# Altium footprint library AngleVu.PcbLib: 74 footprints (part 4 of 5)
Each footprint in its own frame and in the unit in brackets; x right, y up, seen from the top. Pads: shape width x height; smd on the part's side, far side on the other; paste and mask are expansions set on the pad; w line width, h text height; cw(c..) or ccw(c..) is an arc to the next point about the centre after c.
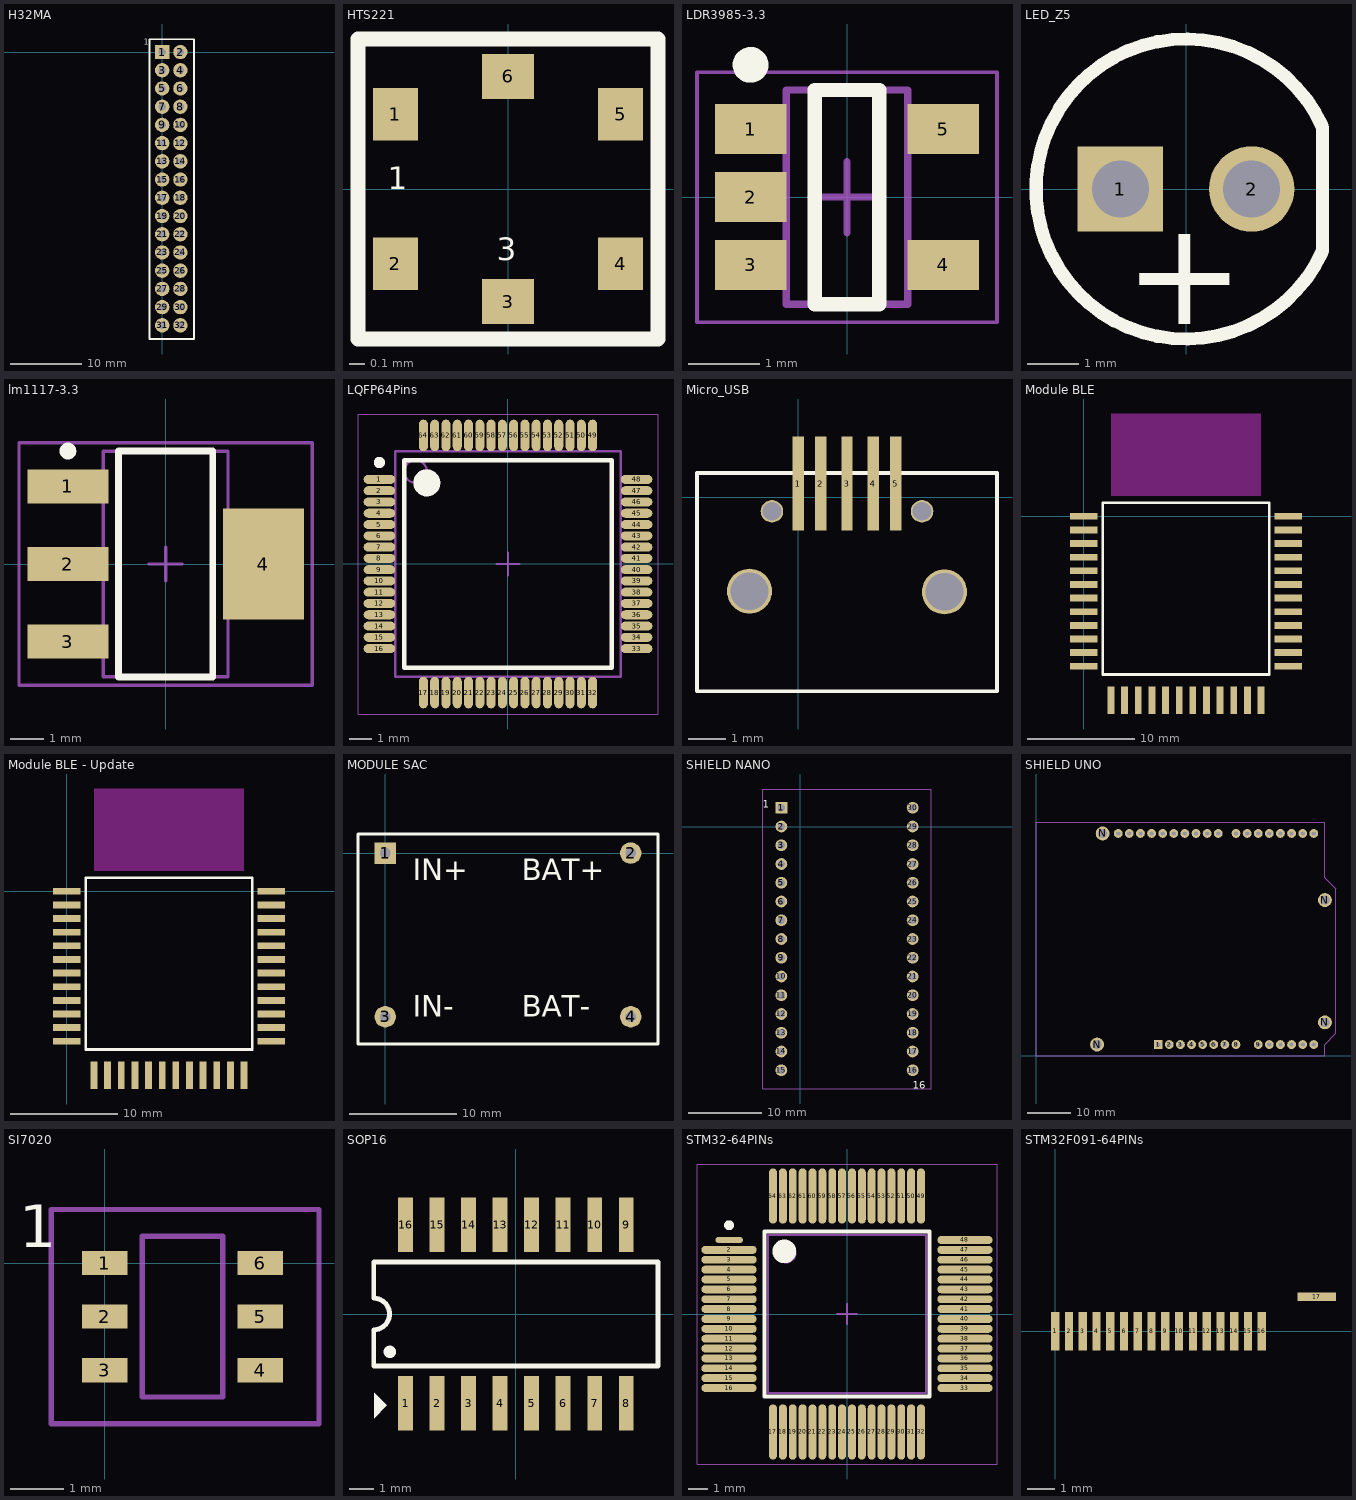
[diagram p3: the footprints below, top view; thin cyan lines are the x and y axes]

## H32MA [mm] "HEADER, DOUBLE, DISTANCE = 100mil"
pads (32):
  rect 2x2 hole 1: 1(0,0)
  round 2 hole 1: 2(2.54,0) 3(0,-2.54) 4(2.54,-2.54) 5(0,-5.08) 6(2.54,-5.08) 7(0,-7.62) 8(2.54,-7.62) 9(0,-10.16) 10(2.54,-10.16) 11(0,-12.7) 12(2.54,-12.7) 13(0,-15.24) 14(2.54,-15.24) 15(0,-17.78) 16(2.54,-17.78) 17(0,-20.32) 18(2.54,-20.32) 19(0,-22.86) 20(2.54,-22.86) 21(0,-25.4) 22(2.54,-25.4) 23(0,-27.94) 24(2.54,-27.94) 25(0,-30.48) 26(2.54,-30.48) 27(0,-33.02) 28(2.54,-33.02) 29(0,-35.56) 30(2.54,-35.56) 31(0,-38.1) 32(2.54,-38.1)
Top Overlay:
  lines w0.254: -1.778,-40.005 4.445,-40.005 4.445,1.778 -1.778,1.778 -1.778,-40.005
  text "1" at -2.54,1.016 h0.8

## HTS221 [mm]
pads (6):
  rect 0.3x0.35 smd mask+0.05: 1(-0.75,0.5) 2(-0.75,-0.5) 4(0.75,-0.5) 5(0.75,0.5)
  rect 0.35x0.3 smd mask+0.05: 3(0,-0.75) 6(0,0.75)
Top Overlay:
  lines w0.1: -1,-1 1,-1 1,1 -1,1 -1,-1
  text "1" at -0.8,0 h0.15
  text "3" at -0.075,-0.475 h0.15

## LDR3985-3.3 [mm] "SOT23, 5-Leads, Body 2.90x2.80mm, Pitch 0.95mm, IPC Medium Density"
height 0.9
pads (5):
  rect 1x0.7 smd: 1(-1.35,0.95) 2(-1.35,0) 3(-1.35,-0.95) 4(1.35,-0.95) 5(1.35,0.95)
Top Overlay:
  circle w0.25: c-1.35,1.85 r0.125
  lines w0.2: -0.45,-1.5 -0.45,1.5 0.45,1.5 0.45,-1.5 -0.45,-1.5
Mechanical 13:
  lines w0.1: -0.85,-1.5 0.85,-1.5 0.85,1.5 -0.85,1.5 -0.85,-1.5
Mechanical 15:
  lines w0.05: -2.1,-1.75 2.1,-1.75 2.1,1.75 -2.1,1.75 -2.1,-1.75
  lines w0.1: -0.5,0 0.5,0 ; 0,-0.5 0,0.5
3D body: height 0.9, standoff 0.05, extent -0.85,-1.5 0.85,1.5

## LED_Z5 [mil] "LED phi 5mm"
height 649.61
pads (2):
  rect 65x65 hole 43.31: 1(-50,0)
  round 65 hole 43.31: 2(50,0)
Top Overlay:
  lines w10: 103.49,-48.23 cw(c0,0) 103.49,48.23 ; 104,-47 104,46.9
  text "+" at -47,-103 h80

## lm1117-3.3 [mm] "SOT223, 4-Leads, Body 6.5x3.5mm, Pitch 2.3mm, Lead Span 7mm, IPC Medium Density"
height 1.8
pads (4):
  rect 2.4x1 smd: 1(-2.9,2.3) 2(-2.9,0) 3(-2.9,-2.3)
  rect 2.4x3.3 smd: 4(2.9,0)
Top Overlay:
  circle w0.25: c-2.9,3.35 r0.125
  lines w0.2: -1.4,-3.35 1.4,-3.35 1.4,3.35 -1.4,3.35 -1.4,-3.35
Mechanical 13:
  lines w0.1: -1.85,-3.35 1.85,-3.35 1.85,3.35 -1.85,3.35 -1.85,-3.35
Mechanical 15:
  lines w0.1: -0.5,0 0.5,0 ; 0,-0.5 0,0.5 ; -4.35,-3.6 4.35,-3.6 4.35,3.6 -4.35,3.6 -4.35,-3.6
3D body: height 1.8, standoff 0, extent -1.85,-3.35 1.85,3.35

## LQFP64Pins [mm]
height 1.6
pads (64):
  oval 1.4x0.4 smd: 1(-5.7,3.75) 2(-5.7,3.25) 3(-5.7,2.75) 4(-5.7,2.25) 5(-5.7,1.75) 6(-5.7,1.25) 7(-5.7,0.75) 8(-5.7,0.25) 9(-5.7,-0.25) 10(-5.7,-0.75) 11(-5.7,-1.25) 12(-5.7,-1.75) 13(-5.7,-2.25) 14(-5.7,-2.75) 15(-5.7,-3.25) 16(-5.7,-3.75) 33(5.7,-3.75) 34(5.7,-3.25) 35(5.7,-2.75) 36(5.7,-2.25) 37(5.7,-1.75) 38(5.7,-1.25) 39(5.7,-0.75) 40(5.7,-0.25) 41(5.7,0.25) 42(5.7,0.75) 43(5.7,1.25) 44(5.7,1.75) 45(5.7,2.25) 46(5.7,2.75) 47(5.7,3.25) 48(5.7,3.75)
  oval 0.4x1.4 smd: 17(-3.75,-5.7) 18(-3.25,-5.7) 19(-2.75,-5.7) 20(-2.25,-5.7) 21(-1.75,-5.7) 22(-1.25,-5.7) 23(-0.75,-5.7) 24(-0.25,-5.7) 25(0.25,-5.7) 26(0.75,-5.7) 27(1.25,-5.7) 28(1.75,-5.7) 29(2.25,-5.7) 30(2.75,-5.7) 31(3.25,-5.7) 32(3.75,-5.7) 49(3.75,5.7) 50(3.25,5.7) 51(2.75,5.7) 52(2.25,5.7) 53(1.75,5.7) 54(1.25,5.7) 55(0.75,5.7) 56(0.25,5.7) 57(-0.25,5.7) 58(-0.75,5.7) 59(-1.25,5.7) 60(-1.75,5.7) 61(-2.25,5.7) 62(-2.75,5.7) 63(-3.25,5.7) 64(-3.75,5.7)
Top Overlay:
  circle w0.6: c-3.6,3.6 r0.3
  circle w0.25: c-5.7,4.5 r0.125
  lines w0.2: -4.6,-4.6 4.6,-4.6 4.6,4.6 -4.6,4.6 -4.6,-4.6
Mechanical 13:
  circle w0.1: c-4.1,4.1 r0.5
  lines w0.1: -5,-5 5,-5 5,5 -5,5 -5,-5
Mechanical 15:
  lines w0.05: -6.65,-6.65 6.65,-6.65 6.65,6.65 -6.65,6.65 -6.65,-6.65
  lines w0.1: -0.5,0 0.5,0 ; 0,-0.5 0,0.5
3D body: height 1.6, standoff 0.15, extent -5,-5 5,5

## Micro_USB [mm]
pads (9):
  rect 0.3x2.5 smd mask+0.05: 1(0,0.37) 2(0.6,0.37) 3(1.3,0.37) 4(2,0.37) 5(2.6,0.37)
  round 1.2 hole 1 mask+0.05: ""(-1.3,-2.5) ""(3.9,-2.52)
  round 0.6 hole 0.5 mask+0.05: ""(-0.7,-0.37) ""(3.3,-0.37)
Top Overlay:
  lines w0.1: -2.7,-5.17 5.3,-5.17 5.3,0.65 -2.7,0.65 -2.7,-5.17
3D body "User Library-10104111.STEP": height 2.77, standoff -0.3, extent -3.1,-5.116 5.7,0.509

## Module BLE [mm]
pads (36):
  rect 2.54x0.635 smd: 1(0,0) 2(0,-1.27) 3(0,-2.54) 4(0,-3.81) 5(0,-5.08) 6(0,-6.35) 7(0,-7.62) 8(0,-8.89) 9(0,-10.16) 10(0,-11.43) 11(0,-12.7) 12(0,-13.97) 25(19.05,-13.97) 26(19.05,-12.7) 27(19.05,-11.43) 28(19.05,-10.16) 29(19.05,-8.89) 30(19.05,-7.62) 31(19.05,-6.35) 32(19.05,-5.08) 33(19.05,-3.81) 34(19.05,-2.54) 35(19.05,-1.27) 36(19.05,0)
  rect 0.635x2.54 smd: 13(2.54,-17.145) 14(3.81,-17.145) 15(5.08,-17.145) 16(6.35,-17.145) 17(7.62,-17.145) 18(8.89,-17.145) 19(10.16,-17.145) 20(11.43,-17.145) 21(12.7,-17.145) 22(13.97,-17.145) 23(15.24,-17.145) 24(16.51,-17.145)
Top Overlay:
  lines w0.254: 1.778,-14.732 1.778,1.27 17.272,1.27 17.272,-14.732 1.778,-14.732
Keep-Out Layer:
  region: 2.54,9.525 2.54,1.905 16.51,1.905 16.51,9.525

## Module BLE - Update [mm]
pads (36):
  rect 2.54x0.635 smd: 1(0,0) 2(0,-1.27) 3(0,-2.54) 4(0,-3.81) 5(0,-5.08) 6(0,-6.35) 7(0,-7.62) 8(0,-8.89) 9(0,-10.16) 10(0,-11.43) 11(0,-12.7) 12(0,-13.97) 25(19.05,-13.97) 26(19.05,-12.7) 27(19.05,-11.43) 28(19.05,-10.16) 29(19.05,-8.89) 30(19.05,-7.62) 31(19.05,-6.35) 32(19.05,-5.08) 33(19.05,-3.81) 34(19.05,-2.54) 35(19.05,-1.27) 36(19.05,0)
  rect 0.635x2.54 smd: 13(2.54,-17.145) 14(3.81,-17.145) 15(5.08,-17.145) 16(6.35,-17.145) 17(7.62,-17.145) 18(8.89,-17.145) 19(10.16,-17.145) 20(11.43,-17.145) 21(12.7,-17.145) 22(13.97,-17.145) 23(15.24,-17.145) 24(16.51,-17.145)
Top Overlay:
  lines w0.254: 1.778,-14.732 17.272,-14.732 17.272,1.27 1.778,1.27 1.778,-14.732
Keep-Out Layer:
  region: 2.54,9.525 2.54,1.905 16.51,1.905 16.51,9.525

## MODULE SAC [mm] "HEADER, DOUBLE, DISTANCE = 100mil"
pads (4):
  rect 2x2 hole 1: 1(0,0)
  round 2 hole 1: 2(22.86,0) 3(0,-15.24) 4(22.86,-15.24)
Top Overlay:
  lines w0.254: -2.54,-17.78 25.4,-17.78 25.4,1.778 -2.54,1.778 -2.54,-17.78
  text "IN+" at 2.54,-2.54 h2
  text "IN-" at 2.54,-15.24 h2
  text "BAT+" at 12.7,-2.54 h2
  text "BAT-" at 12.7,-15.24 h2

## SHIELD NANO [mm]
pads (30):
  rect 1.6x1.6 hole 1: 1(-2.54,2.54)
  round 1.6 hole 1: 2(-2.54,0) 3(-2.54,-2.54) 4(-2.54,-5.08) 5(-2.54,-7.62) 6(-2.54,-10.16) 7(-2.54,-12.7) 8(-2.54,-15.24) 9(-2.54,-17.78) 10(-2.54,-20.32) 11(-2.54,-22.86) 12(-2.54,-25.4) 13(-2.54,-27.94) 14(-2.54,-30.48) 15(-2.54,-33.02) 16(15.24,-33.02) 17(15.24,-30.48) 18(15.24,-27.94) 19(15.24,-25.4) 20(15.24,-22.86) 21(15.24,-20.32) 22(15.24,-17.78) 23(15.24,-15.24) 24(15.24,-12.7) 25(15.24,-10.16) 26(15.24,-7.62) 27(15.24,-5.08) 28(15.24,-2.54) 29(15.24,0) 30(15.24,2.54)
Top Overlay:
  text "16" at 15.24,-35.56 h1
  text "1" at -5.08,2.54 h1
Mechanical 1:
  lines w0.1: -5.08,-35.56 17.78,-35.56 17.78,5.08 -5.08,5.08 -5.08,-35.56

## SHIELD UNO [mm]
pads (36):
  rect 2x2 hole 1: 1(27.94,2.54)
  round 2 hole 1: 2(30.48,2.54) 3(33.02,2.54) 4(35.56,2.54) 5(38.1,2.54) 6(40.64,2.54) 7(43.18,2.54) 8(45.72,2.54) 9(50.8,2.54) 10(53.34,2.54) 11(55.88,2.54) 12(58.42,2.54) 13(60.96,2.54) 14(63.5,2.54) 15(63.5,50.8) 16(60.96,50.8) 17(58.42,50.8) 18(55.88,50.8) 19(53.34,50.8) 20(50.8,50.8) 21(48.26,50.8) 22(45.72,50.8) 23(41.656,50.8) 24(39.116,50.8) 25(36.576,50.8) 26(34.036,50.8) 27(31.496,50.8) 28(28.956,50.8) 29(26.416,50.8) 30(23.876,50.8) 31(21.336,50.8) 32(18.796,50.8)
  round 3.175 hole 2.032: N(13.97,2.54) N(15.24,50.8) N(66.04,7.62) N(66.04,35.56)
Mechanical 1:
  lines w0.254: 0,0 0,2.54 0,53.34 66.04,53.34 66.04,50.8 66.04,40.64 68.58,38.1 68.58,5.08 66.04,2.54 66.04,0 0,0

## SI7020 [mm] "DFN, 4-Leads, Body 3.00x3.00mm, Pitch 0.65mm, IPC Medium Density"
height 0.8
pads (6):
  rect 0.85x0.45 smd: 1(0,0) 2(0,-1) 3(0,-2) 4(2.9,-2) 5(2.9,-1) 6(2.9,0)
Top Overlay:
  text "1" at -1.6,0.3 h0.8
Mechanical 1:
  lines w0.1: 2.2,-2.3 2.2,-2.5 0.7,-2.5 0.7,0.5 2.2,0.5 ; -1,-3 -1,1 4,1 4,-3 -1,-3
Mechanical 13:
  lines w0.1: 2.2,-2.3 2.2,0.5

## SOP16 [mm] "Small Outline; 16 Leads; Body Width 5.6 mm; Pitch 1.27 mm"
height 2
pads (16):
  rect 0.6x2.2 smd: 1(-4.445,-3.6) 2(-3.175,-3.6) 3(-1.905,-3.6) 4(-0.635,-3.6) 5(0.635,-3.6) 6(1.905,-3.6) 7(3.175,-3.6) 8(4.445,-3.6) 9(4.445,3.6) 10(3.175,3.6) 11(1.905,3.6) 12(0.635,3.6) 13(-0.635,3.6) 14(-1.905,3.6) 15(-3.175,3.6) 16(-4.445,3.6)
Top Overlay:
  circle w0.25: c-5.078,-1.524 r0.125
  region: -5.715,-4.191 -5.207,-3.683 -5.715,-3.175
  lines w0.2: -5.725,-2.1 5.725,-2.1 5.725,2.1 -5.725,2.1 -5.725,0.635 cw(c-5.725,0) -5.725,-0.635 -5.725,-2.1

## STM32-64PINs [mm] "SQFP, 64-Leads, Body 8.00x8.00mm, Pitch 0.50mm, IPC Medium Density"
height 2.45
pads (64):
  oval 1.4x0.3 smd: 1(-5.975,3.75)
  oval 2.8x0.4 smd: 2(-5.975,3.25) 3(-5.975,2.75) 4(-5.975,2.25) 5(-5.975,1.75) 6(-5.975,1.25) 7(-5.975,0.75) 8(-5.975,0.25) 9(-5.975,-0.25) 10(-5.975,-0.75) 11(-5.975,-1.25) 12(-5.975,-1.75) 13(-5.975,-2.25) 14(-5.975,-2.75) 15(-5.975,-3.25) 16(-5.975,-3.75) 33(5.975,-3.75) 34(5.975,-3.25) 35(5.975,-2.75) 36(5.975,-2.25) 37(5.975,-1.75) 38(5.975,-1.25) 39(5.975,-0.75) 40(5.975,-0.25) 41(5.975,0.25) 42(5.975,0.75) 43(5.975,1.25) 44(5.975,1.75) 45(5.975,2.25) 46(5.975,2.75) 47(5.975,3.25) 48(5.975,3.75)
  oval 0.4x2.8 smd: 17(-3.75,-5.975) 18(-3.25,-5.975) 19(-2.75,-5.975) 20(-2.25,-5.975) 21(-1.75,-5.975) 22(-1.25,-5.975) 23(-0.75,-5.975) 24(-0.25,-5.975) 25(0.25,-5.975) 26(0.75,-5.975) 27(1.25,-5.975) 28(1.75,-5.975) 29(2.25,-5.975) 30(2.75,-5.975) 31(3.25,-5.975) 32(3.75,-5.975) 49(3.75,5.975) 50(3.25,5.975) 51(2.75,5.975) 52(2.25,5.975) 53(1.75,5.975) 54(1.25,5.975) 55(0.75,5.975) 56(0.25,5.975) 57(-0.25,5.975) 58(-0.75,5.975) 59(-1.25,5.975) 60(-1.75,5.975) 61(-2.25,5.975) 62(-2.75,5.975) 63(-3.25,5.975) 64(-3.75,5.975)
Top Overlay:
  circle w0.6: c-3.175,3.175 r0.3
  circle w0.25: c-5.975,4.5 r0.125
  lines w0.2: -4.175,-4.175 4.175,-4.175 4.175,4.175 -4.175,4.175 -4.175,-4.175
Mechanical 13:
  circle w0.1: c-3.1,3.1 r0.5
  lines w0.1: -4,-4 4,-4 4,4 -4,4 -4,-4
Mechanical 15:
  lines w0.05: -7.6,-7.6 7.6,-7.6 7.6,7.6 -7.6,7.6 -7.6,-7.6
  lines w0.1: -0.5,0 0.5,0 ; 0,-0.5 0,0.5
3D body: height 2.45, standoff 0.25, extent -4,-4 4,4

## STM32F091-64PINs [mm]
pads (17):
  rect 0.3x1.4 smd: 1(0,0) 2(0.5,0) 3(1,0) 4(1.5,0) 5(2,0) 6(2.5,0) 7(3,0) 8(3.5,0) 9(4,0) 10(4.5,0) 11(5,0) 12(5.5,0) 13(6,0) 14(6.5,0) 15(7,0) 16(7.5,0)
  rect 1.4x0.3 smd: 17(9.5,1.25)